# Altium schematic symbol library LED-4SMD.SchLib: 1 symbol
Pins are listed as number, name and electrical type; pins without a type are passive.

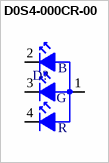
[diagram p0: symbol D0S4-000CR-00]

## D0S4-000CR-00
designator D?  (value not drawn)
LED 4SMD RGB 2Vf 3Vf 3Vf 20mA 10mA 10mA; Supplier 1: Digi-Key; Supplier Part Number 1: CLMVB-FKA-CFHEHLCBB7A363CT-ND; Color: RGB
footprint CLMVB-FKA (LED RGB DIFFUSED 4SMD)
pins: 1 Red, 2 Green, 3 Blue, 4
text: B; G; R